# Altium schematic symbol library N25Q128A13EF840F.SchLib: 2 symbols
Pins are listed as number, name and electrical type; pins without a type are passive.

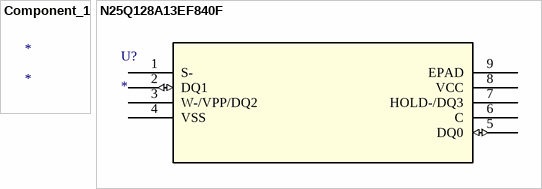
[diagram p0: symbols Component_1 to N25Q128A13EF840F]

## Component_1
designator *

## N25Q128A13EF840F
designator U?
No Description Available; Mfr_Name: Micron; RefDes: RefDes; Type: Type
footprint VPDFN8_8X6_MRN
pins: 1 S-, 2 DQ1 (io), 3 W-/VPP/DQ2 (power), 4 VSS (power), 5 DQ0 (io), 6 C, 7 HOLD-/DQ3, 8 VCC (power), 9 EPAD